# Altium footprint library PcbLib_bldc.PcbLib: 24 footprints (part 1 of 2)
Each footprint in its own frame and in the unit in brackets; x right, y up, seen from the top. Pads: shape width x height; smd on the part's side, far side on the other; paste and mask are expansions set on the pad; w line width, h text height; cw(c..) or ccw(c..) is an arc to the next point about the centre after c.
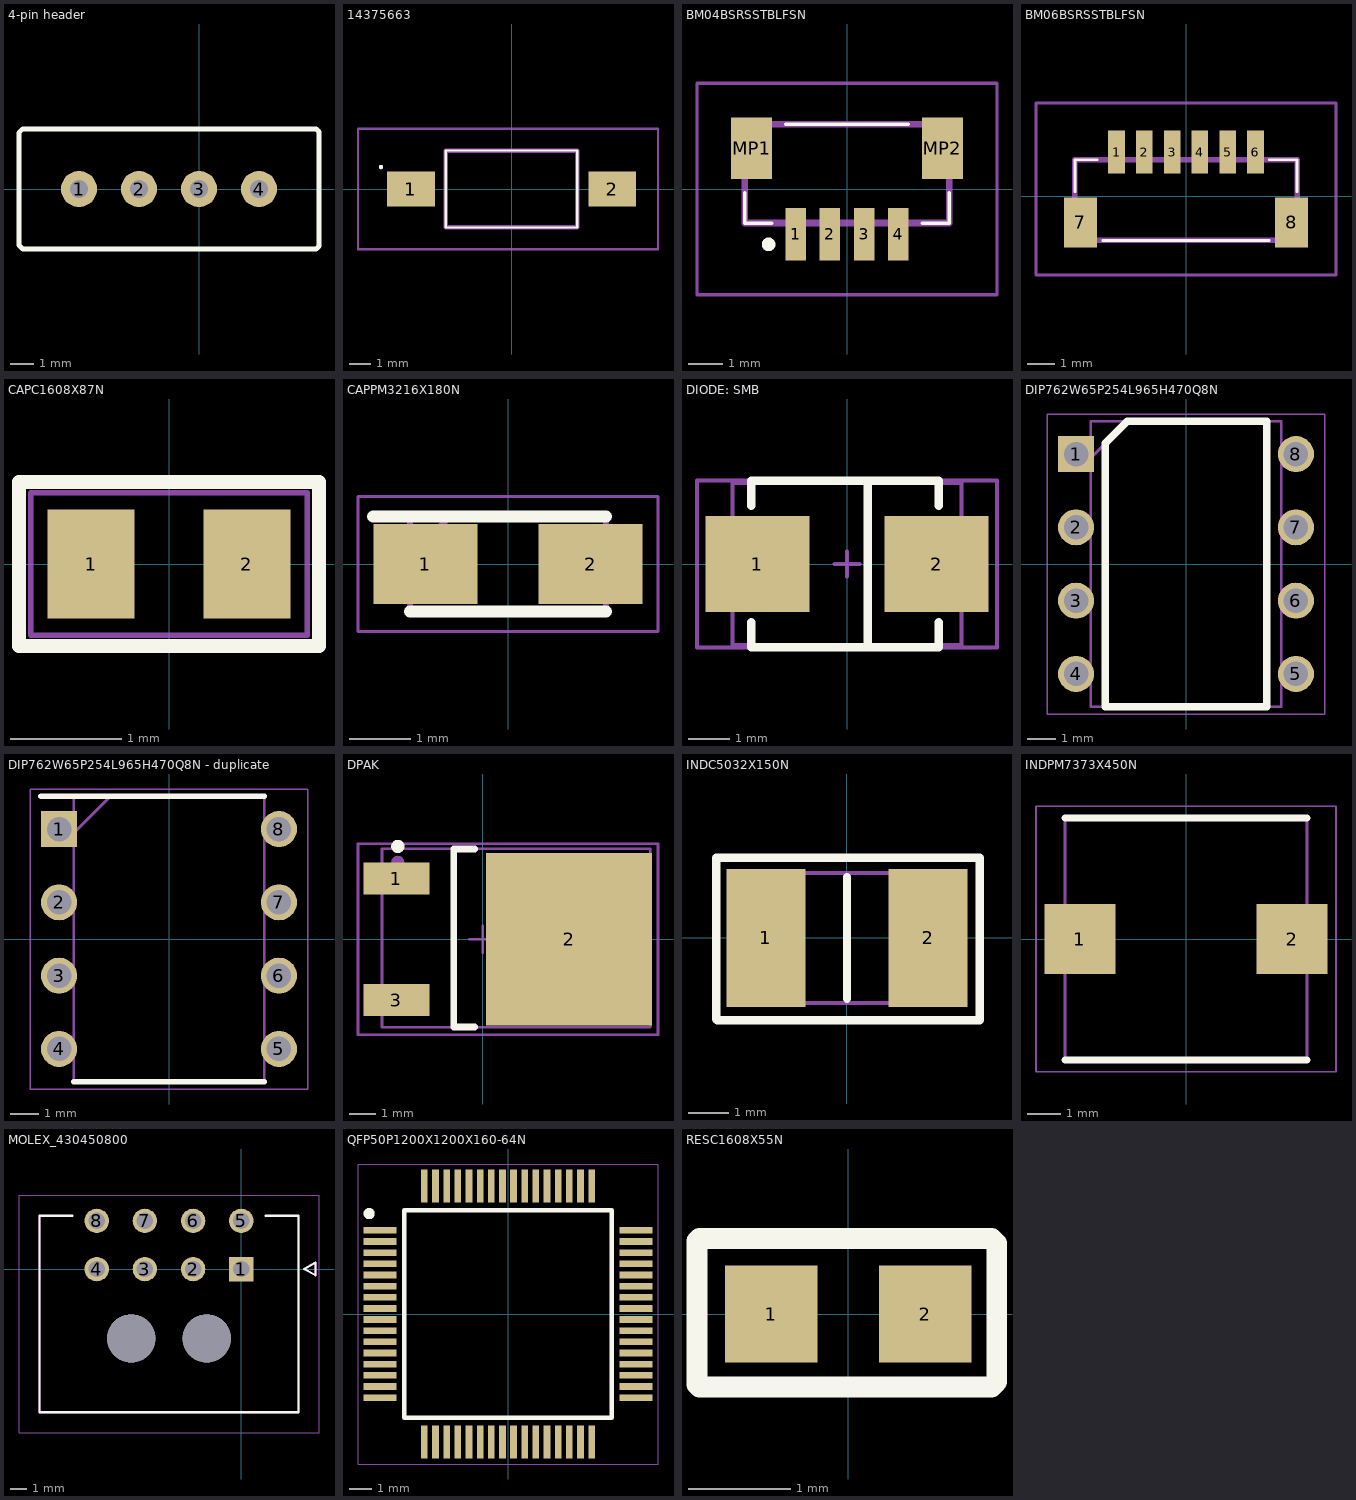
[diagram p0: the footprints below, top view; thin cyan lines are the x and y axes]

## 4-pin header [mil]
pads (4):
  round 60 hole 30: 1(-200,0) 2(-100,0) 3(0,0) 4(100,0)
Top Overlay:
  lines w8: -300,-93.7 -300,93.7 -298.43,95.28 -295.28,98.43 -293.7,100 195.28,100 200,95.28 200,-95.28 195.28,-100 -293.7,-100 -300,-93.7

## 14375663 [mm]
pads (2):
  rect 2.18x1.6 smd: 1(-4.59,0) 2(4.59,0)
Top Overlay:
  lines w0.1: -6,1 cw(c-5.95,1) -5.9,1 cw(c-5.95,1) -6,1 ; -3,-1.75 -3,1.75 3,1.75 3,-1.75 -3,-1.75
Mechanical 15:
  lines w0.2: -3,-1.75 -3,1.75 3,1.75 3,-1.75 -3,-1.75
Mechanical 20:
  lines w0.1: -7,-2.75 -7,2.75 ; -7,-2.75 6.68,-2.75 ; -7,-2.75 -7,2.75 ; -7,-2.75 6.68,-2.75 ; -7,2.75 6.68,2.75 ; -7,2.75 6.68,2.75 ; 6.68,-2.75 6.68,2.75 ; 6.68,-2.75 6.68,2.75
3D body "1437566-3.stp": height 4.32, standoff -0.1, extent -4.985,-1.722 4.985,1.778

## BM04BSRSSTBLFSN [mm]
pads (6):
  rect 0.6x1.55 smd: 1(-1.5,-1.325) 2(-0.5,-1.325) 3(0.5,-1.325) 4(1.5,-1.325)
  rect 1.2x1.8 smd: MP1(-2.8,1.2) MP2(2.8,1.2)
Top Overlay:
  lines w0.1: -3,-0.113 -3,-1.001 -2.2,-1.001 ; -1.8,1.899 1.8,1.899 ; 2.2,-1.001 3,-1.001 3,-0.113
  lines w0.2: -2.3,-1.724 cw(c-2.3,-1.625) -2.3,-1.525 cw(c-2.3,-1.625) -2.3,-1.724
Mechanical 15:
  lines w0.2: -3,-1.001 3,-1.001 3,1.899 -3,1.899 -3,-1.001
Mechanical 20:
  lines w0.1: -4.4,-3.101 4.4,-3.101 4.4,3.101 -4.4,3.101 -4.4,-3.101
3D body "BM04B-SRSS-TB_LF__SN_.stp": height 4.41, standoff 0.06, extent -2.949,-1.651 3.051,1.949

## BM06BSRSSTBLFSN [mm]
pads (8):
  rect 0.6x1.55 smd: 1(-2.5,1.588) 2(-1.5,1.588) 3(-0.5,1.588) 4(0.5,1.588) 5(1.5,1.588) 6(2.5,1.588)
  rect 1.2x1.8 smd: 7(-3.8,-0.937) 8(3.8,-0.937)
Top Overlay:
  lines w0.1: -4,0.163 -4,1.313 -3.2,1.313 ; -3,-1.587 3,-1.587 ; 3,1.313 4,1.313 4,0.363 4,0.163
Mechanical 15:
  lines w0.2: -4,-1.587 4,-1.587 4,1.313 -4,1.313 -4,-1.587
Mechanical 20:
  lines w0.1: -5.4,-2.837 5.4,-2.837 5.4,3.363 -5.4,3.363 -5.4,-2.837
3D body "BM06B-SRSS-TB_LF__SN_.stp": height 4.3, standoff 0, extent -4.012,-1.622 3.988,1.978

## CAPC1608X87N [mm]
pads (2):
  rect 0.78x0.98 smd: 1(-0.7,0) 2(0.7,0)
Top Overlay:
  lines w0.127: -1.346,-0.737 -1.346,0.737 1.346,0.737 1.346,-0.737 -1.346,-0.737
Mechanical 15:
  lines w0.1: -0.8,-0.4 -0.8,0.4 ; 0.8,-0.4 0.8,0.4
Mechanical 20:
  lines w0.05: -1.24,-0.64 -1.24,0.64 1.24,0.64 1.24,-0.64 -1.24,-0.64
3D body "C0603C222K4REC7411.stp": height 0.97, standoff 0.02, extent -0.875,-0.489 0.875,0.381

## CAPPM3216X180N [mm]
pads (2):
  rect 1.7x1.3 smd: 1(-1.35,0) 2(1.35,0)
Top Overlay:
  lines w0.2: -2.2,0.775 1.6,0.775 ; -1.6,-0.775 1.6,-0.775
Mechanical 15:
  lines w0.1: -1.6,0.125 -0.95,0.775 ; -1.6,-0.775 -1.6,0.775 1.6,0.775 1.6,-0.775 -1.6,-0.775
Mechanical 20:
  lines w0.05: -2.45,-1.1 -2.45,1.1 2.45,1.1 2.45,-1.1 -2.45,-1.1
3D body "TAJA104K050R.stp": height 1.8, standoff 0, extent -1.6,-0.788 1.6,0.762

## DIODE: SMB [mm]
pads (2):
  rect 2.5x2.3 smd: 1(-2.15,0) 2(2.15,0)
Top Overlay:
  lines w0.2: -2.3,-1.4 -2.3,-2 2.2,-2 2.2,-1.4 ; -2.3,1.4 -2.3,2 2.2,2 2.2,1.4 ; 0.5,-2 0.5,2
Mechanical 1:
  lines w0.1: 0.5,-1.95 0.5,1.95 ; -2.75,-1.95 2.75,-1.95 2.75,1.95 -2.75,1.95 -2.75,-1.95
Mechanical 15:
  lines w0.1: -0.3,0 0.3,0 ; 0,-0.3 0,0.3 ; -3.6,-2 -3.6,2 3.6,2 3.6,-2 -3.6,-2
3D body "User Library-DIOM5539X24.STEP": height 2.45, standoff 0.03, extent -2.75,-1.95 2.75,1.95

## DIP762W65P254L965H470Q8N [mm]
pads (8):
  rect 1.25x1.25 / inner round 1.25 / far side rect 1.25x1.25 hole 0.85: 1(-3.81,3.81)
  round 1.25 hole 0.85: 2(-3.81,1.27) 3(-3.81,-1.27) 4(-3.81,-3.81) 5(3.81,-3.81) 6(3.81,-1.27) 7(3.81,1.27) 8(3.81,3.81)
Top Overlay:
  lines w0.254: -2.794,-4.953 -2.794,4.064 -2.794,4.191 -2.032,4.953 2.794,4.953 2.794,-4.953 -2.794,-4.953
Mechanical 15:
  lines w0.1: -3.3,3.68 -2.03,4.95 ; -3.3,-4.95 -3.3,4.95 3.3,4.95 3.3,-4.95 -3.3,-4.95
Mechanical 20:
  lines w0.05: -4.81,-5.2 -4.81,5.2 4.81,5.2 4.81,-5.2 -4.81,-5.2
3D body "HCPL-4504-000E.stp": height 4.7, standoff -3.5, extent -3.972,-4.825 3.972,4.825

## DIP762W65P254L965H470Q8N - duplicate [mm]
pads (8):
  rect 1.25x1.25 / inner round 1.25 / far side rect 1.25x1.25 hole 0.85: 1(-3.81,3.81)
  round 1.25 hole 0.85: 2(-3.81,1.27) 3(-3.81,-1.27) 4(-3.81,-3.81) 5(3.81,-3.81) 6(3.81,-1.27) 7(3.81,1.27) 8(3.81,3.81)
Top Overlay:
  lines w0.2: -4.435,4.95 3.3,4.95 ; -3.3,-4.95 3.3,-4.95
Mechanical 15:
  lines w0.1: -3.3,3.68 -2.03,4.95 ; -3.3,-4.95 3.3,-4.95 3.3,4.95 -3.3,4.95 -3.3,-4.95
Mechanical 20:
  lines w0.05: -4.81,-5.2 4.81,-5.2 4.81,5.2 -4.81,5.2 -4.81,-5.2

## DPAK [mm]
height 2.4
pads (4):
  rect 2.5x1.2 smd: 1(-3.25,2.29) 3(-3.25,-2.29)
  rect 6.25x6.5 smd: 2(3.25,0)
  round 0.5 on Mech1: ""(-3.2,2.9)
Top Overlay:
  circle w0.25: c-3.2,3.5 r0.125
  lines w0.25: -0.3,-3.3 -1.1,-3.3 -1.1,3.4 -0.3,3.4
Mechanical 1:
  lines w0.1: -3.798,-3.317 -3.798,3.417 6.302,3.417 ; -3.798,-3.317 -3.798,-3.317 ; -3.798,-3.317 6.302,-3.317 6.302,3.417 ; 6.302,3.417 6.302,3.417
Mechanical 15:
  lines w0.1: -0.5,0 0.5,0 ; 0,-0.5 0,0.5 ; -4.7,-3.6 6.6,-3.6 6.6,3.6 -4.7,3.6 -4.7,-3.6
3D body "User Library-DPAK_TO-252AA.STEP": height 2.37, standoff -0.03, extent -3.798,-3.317 6.302,3.417

## INDC5032X150N [mm]
pads (2):
  rect 1.95x3.4 smd: 1(-2,0) 2(2,0)
Top Overlay:
  lines w0.2: 0,-1.5 0,1.5
  lines w0.203: -3.226,-2.007 -3.2,-2.032 3.277,-2.032 3.277,1.981 -3.226,1.981 -3.226,-2.007
Mechanical 15:
  lines w0.1: -2.5,-1.6 -2.5,1.6 2.5,1.6 2.5,-1.6 -2.5,-1.6
Mechanical 20:
  lines w0.05: -3.225,-1.95 -3.225,1.95 3.225,1.95 3.225,-1.95 -3.225,-1.95
3D body "NX5032GA-8MHZ-EXS00A-CG07039.stp": height 1.6, standoff 0, extent -2.8,-1.6 2.8,1.6

## INDPM7373X450N [mm]
pads (2):
  rect 2.15x2.1 smd: 1(-3.2,0) 2(3.2,0)
Top Overlay:
  lines w0.2: -3.65,-3.65 3.65,-3.65 ; -3.65,3.65 3.65,3.65
Mechanical 15:
  lines w0.1: -3.65,-3.65 3.65,-3.65 3.65,3.65 -3.65,3.65 -3.65,-3.65
Mechanical 20:
  lines w0.05: -4.525,-4 4.525,-4 4.525,4 -4.525,4 -4.525,-4
3D body "B82472G6332M000.stp": height 4.14, standoff 0.09, extent -3.65,-3.523 3.65,3.777

## MOLEX_430450800 [mm]
height 8.77
pads (10):
  rect 1.52x1.52 / inner round 1.52 / far side rect 1.52x1.52 hole 1.02 mask+0.076: 1(0,0)
  round 1.52 hole 1.02 mask+0.076: 2(-3,0) 3(-6,0) 4(-9,0) 5(0,3) 6(-3,3) 7(-6,3) 8(-9,3)
  round 3 hole 3 unplated mask+0.076: ""(-6.85,-4.32) ""(-2.15,-4.32)
Top Overlay:
  lines w0.127: -10.5,3.32 -12.575,3.32 -12.575,-8.92 3.575,-8.92 3.575,3.32 1.5,3.32 ; 3.92,0.01 4.62,0.41 4.62,-0.39 3.92,0.01
Mechanical 13:
  lines w0.127: -12.575,3.32 -12.575,-8.92 3.575,-8.92 3.575,3.32 ; 3.92,0.01 4.62,0.41 4.62,-0.39 3.92,0.01
Mechanical 15:
  lines w0.05: -13.845,-10.19 4.845,-10.19 4.845,4.59 -13.845,4.59 -13.845,-10.19
3D body "0430450800.stp": height 8.92, standoff -3.03, extent -12.622,-8.836 3.528,3.404

## PCBComponent_1 [mm]

## QFP50P1200X1200X160-64N [mm]
pads (64):
  rect 1.475x0.3 smd: 1(-5.738,3.75) 2(-5.738,3.25) 3(-5.738,2.75) 4(-5.738,2.25) 5(-5.738,1.75) 6(-5.738,1.25) 7(-5.738,0.75) 8(-5.738,0.25) 9(-5.738,-0.25) 10(-5.738,-0.75) 11(-5.738,-1.25) 12(-5.738,-1.75) 13(-5.738,-2.25) 14(-5.738,-2.75) 15(-5.738,-3.25) 16(-5.738,-3.75) 33(5.738,-3.75) 34(5.738,-3.25) 35(5.738,-2.75) 36(5.738,-2.25) 37(5.738,-1.75) 38(5.738,-1.25) 39(5.738,-0.75) 40(5.738,-0.25) 41(5.738,0.25) 42(5.738,0.75) 43(5.738,1.25) 44(5.738,1.75) 45(5.738,2.25) 46(5.738,2.75) 47(5.738,3.25) 48(5.738,3.75)
  rect 0.3x1.475 smd: 17(-3.75,-5.738) 18(-3.25,-5.738) 19(-2.75,-5.738) 20(-2.25,-5.738) 21(-1.75,-5.738) 22(-1.25,-5.738) 23(-0.75,-5.738) 24(-0.25,-5.738) 25(0.25,-5.738) 26(0.75,-5.738) 27(1.25,-5.738) 28(1.75,-5.738) 29(2.25,-5.738) 30(2.75,-5.738) 31(3.25,-5.738) 32(3.75,-5.738) 49(3.75,5.738) 50(3.25,5.738) 51(2.75,5.738) 52(2.25,5.738) 53(1.75,5.738) 54(1.25,5.738) 55(0.75,5.738) 56(0.25,5.738) 57(-0.25,5.738) 58(-0.75,5.738) 59(-1.25,5.738) 60(-1.75,5.738) 61(-2.25,5.738) 62(-2.75,5.738) 63(-3.25,5.738) 64(-3.75,5.738)
Top Overlay:
  circle w0.25: c-6.225,4.5 r0.125
  lines w0.2: -4.65,-4.65 -4.65,4.65 4.65,4.65 4.65,-4.65 -4.65,-4.65
Mechanical 20:
  lines w0.05: -6.725,-6.725 -6.725,6.725 6.725,6.725 6.725,-6.725 -6.725,-6.725
3D body "STM32G474RBT6.stp": height 1.6, standoff 0, extent -6,-6 6,6

## RESC1608X55N [mm]
pads (2):
  rect 0.9x0.95 smd: 1(-0.75,0) 2(0.75,0)
Top Overlay:
  lines w0.203: -1.473,-0.686 -1.448,-0.711 1.397,-0.711 1.435,-0.673 1.448,-0.66 1.448,0.686 1.397,0.737 -1.448,0.737 -1.473,0.711 -1.473,-0.051 -1.473,-0.686
Mechanical 20:
  lines w0.05: -1.45,-0.75 1.45,-0.75 1.45,0.75 -1.45,0.75 -1.45,-0.75
3D body "CPF0603B150RE.stp": height 0.45, standoff 0, extent -0.8,-0.403 0.75,0.397